# Altium footprint library connectors.PcbLib: 4 footprints
Each footprint in its own frame and in the unit in brackets; x right, y up, seen from the top. Pads: shape width x height; smd on the part's side, far side on the other; paste and mask are expansions set on the pad; w line width, h text height; cw(c..) or ccw(c..) is an arc to the next point about the centre after c.
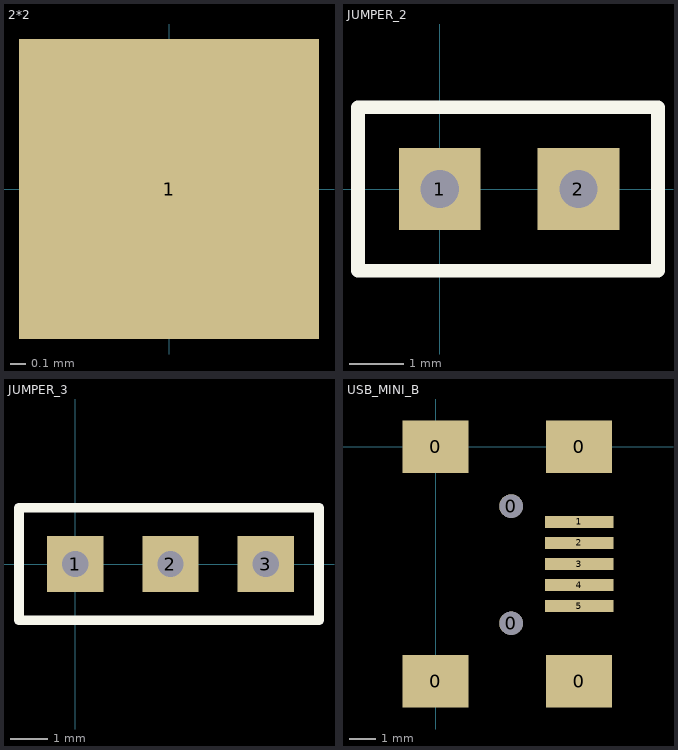
[diagram p0: the footprints below, top view; thin cyan lines are the x and y axes]

## 2*2 [mm]
pads (1):
  rect 2x2 smd: 1(0,0)

## JUMPER_2 [mm]
pads (2):
  rect 1.5x1.5 hole 0.7: 1(0,0) 2(2.54,0)
Top Overlay:
  lines w0.254: -1.5,-1.5 4,-1.5 4,1.5 -1.5,1.5 -1.5,-1.5

## JUMPER_3 [mm]
pads (3):
  rect 1.5x1.5 hole 0.7: 1(0,0) 2(2.54,0) 3(5.08,0)
Top Overlay:
  lines w0.254: -1.5,-1.5 6.5,-1.5 6.5,1.5 -1.5,1.5 -1.5,-1.5

## USB_MINI_B [mm]
pads (11):
  rect 2.5x2 smd: 0(0,-8.9) 0(0,0) 0(5.45,-8.9) 0(5.45,0)
  round 0.9 hole 0.9: 0(2.87,-6.7) 0(2.87,-2.25)
  rect 2.6x0.45 smd: 1(5.45,-2.85) 2(5.45,-3.65) 3(5.45,-4.45) 4(5.45,-5.25) 5(5.45,-6.05)
3D body: height 3.95, standoff -1, extent -2.75,-9.775 6.45,0.925